# Altium schematic symbol library BATTERY_HOLDER_3xAA_3xR6_PINS.Schlib: 1 symbol
Pins are listed as number, name and electrical type; pins without a type are passive.

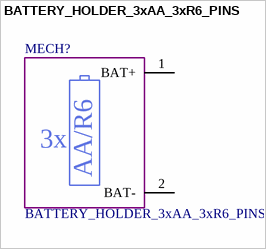
[diagram p0: symbol BATTERY_HOLDER_3xAA_3xR6_PINS]

## BATTERY_HOLDER_3xAA_3xR6_PINS
designator MECH?
Battery holder 3xAA
pins: 1 BAT+, 2 BAT-
text: 3x; AA/R6